# Altium schematic symbol library SuperCaps.SchLib: 1 symbol
Pins are listed as number, name and electrical type; pins without a type are passive.

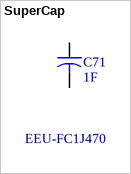
[diagram p0: symbol SuperCap]

## SuperCap
designator C71, comment 1F  PartNumber: EEU-FC1J470
Capacitor; Manufacturer: Panasonic; Published: 23-Sep-2002; PackageReference: CAPR5-4X5; Publisher: Altium Limited; PackageDescription: Capacitor; 2 Leads; Supplier 1: Digi-Key; Supplier Part Number 1: 399-10810-ND
simulation model CAP (Capacitor)
signal-integrity model Cap
footprint FT0H105ZF
pins: 1, 2